# Altium integrated library JS102011JCQN.IntLib: 1 symbol
Pins are listed as number, name and electrical type; pins without a type are passive.

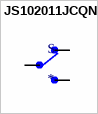
[diagram p0: symbol JS102011JCQN]

## JS102011JCQN
designator S
Slide Switch SPDT Surface Mount; MF: C&K; MP: JS102011JCQN; Package: None; Price: None; Availability: Unavailable; SnapEDA_Link: https://www.snapeda.com/parts/JS102011JCQN/C%26K/view-part/595990/?ref=snap; Value: *
footprint SW_JS102011JCQN
pins: 1, 2, 3